# EAGLE library part TSL2561T (library atmospheric)
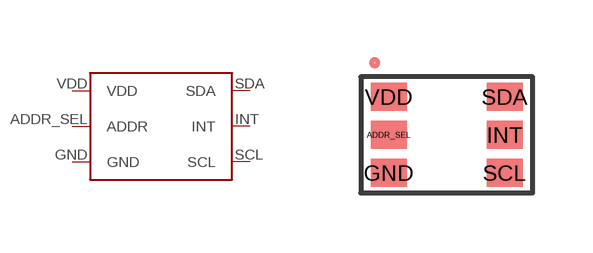
[diagram p0: symbol with the pads of TSL2561T; footprint TSL2561T]

Designator prefix -

## TSL2561T  [TSL2561T]
ADDR_SEL  ADDR  pas
GND  GND  pas
INT  INT  pas
SCL  SCL  pas
SDA  SDA  pas
VDD  VDD  pas

## Footprint TSL2561T (pad centres in mm)
smd 0.9 x 0.7: ADDR_SEL 0,0.95; GND 0,0; INT 2.9,0.95; SCL 2.9,0; SDA 2.9,1.9; VDD 0,1.9